# Altium schematic symbol library Schlib1.SchLib: 3 symbols
Pins are listed as number, name and electrical type; pins without a type are passive.

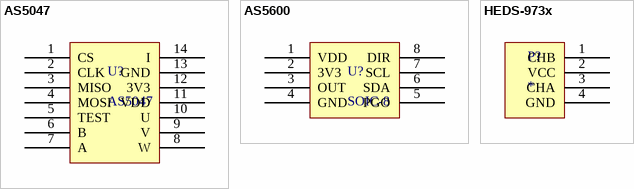
[diagram p0: symbols AS5047 to HEDS-973x]

## AS5047
designator U?
footprint TSSOP14_065P
pins: 1 CS, 2 CLK, 3 MISO, 4 MOSI, 5 TEST, 6 B, 7 A, 8 W, 9 V, 10 U, 11 VDD, 12 3V3, 13 GND, 14 I

## AS5600
designator U?, comment SOIC-8
footprint SOIC-8
pins: 1 VDD, 2 3V3, 3 OUT, 4 GND, 5 PGO, 6 SDA, 7 SCL, 8 DIR

## HEDS-973x
designator P?
footprint HEDS-973x
pins: 1 CHB, 2 VCC, 3 CHA, 4 GND